# Altium schematic symbol library Frost5000Beta_LIB_Conectores_Sch.SchLib: 5 symbols
Pins are listed as number, name and electrical type; pins without a type are passive.

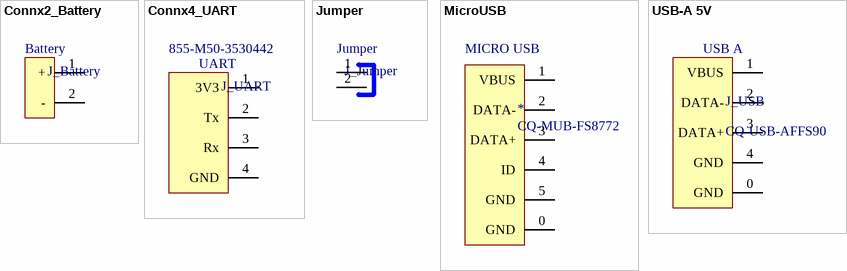
[diagram p0: symbols Connx2_Battery to USB-A 5V]

## Connx2_Battery
designator J_Battery
2.54mm Pin Header 2x1
footprint Battery (Footprint Battery)
pins: 1 + "+ Positive", 2 - "- Negative"
text: Battery

## Connx4_UART
designator J_UART  Supplier Part Number 1: 855-M50-3530442
1.27mm Pin Header 4x1; Supplier 1: Mouser
footprint UART-1.27mm (Socket UART)
pins: 1 3V3 "Vcc +3.3V", 2 Tx "Transmisión", 3 Rx "+ Positive", 4 GND
text: UART

## Jumper
designator J_Jumper
2.54mm Pin Header 2x1; Supplier 1: Mouser; Supplier Part Number 1: 855-M20-9990245
footprint JUMPER-1.27 mm (Footprint Jumper)
pins: 1 "+ Positive", 2 "- Negative"

## MicroUSB
designator *, comment CQ-MUB-FS8772
Conector MicroUSB   --   CQ-MUB-FS8772
footprint MICRO USB (Footprint MicroUSB)
pins: 0 GND, 1 VBUS (power) "Vcc +3.3V", 2 DATA- "Transmisión", 3 DATA+ "+ Positive", 4 ID, 5 GND
text: MICRO USB

## USB-A 5V
designator J_USB, comment CQ-USB-AFFS90
Conector del USB   --   CQ-USB-AFFS90
footprint USB-A__IPX8 (Footprint del USB tipo A)
pins: 0 GND, 1 VBUS (power) "Vcc +3.3V", 2 DATA- "Transmisión", 3 DATA+ "+ Positive", 4 GND
text: USB A